# EAGLE library part PDC-10-1 (library divers)
PDC-10-1: Directional coupler 11.5dB (Mini-Circuits)
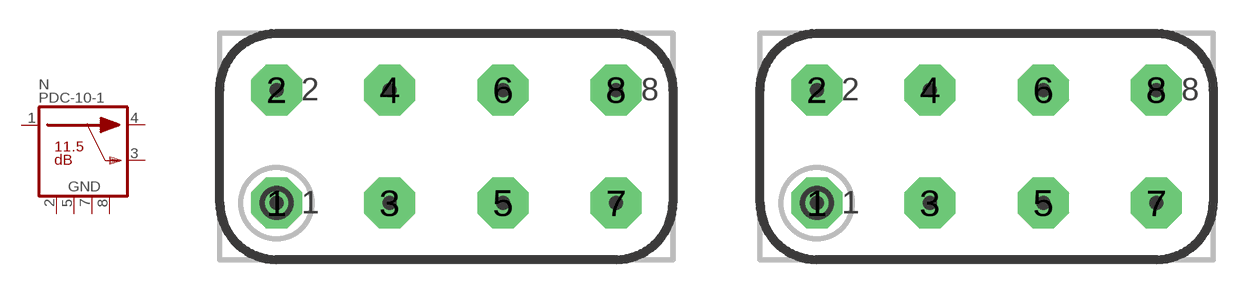
[diagram p24: symbol with the pads of MC-A01N; footprints MC-A01N, MC-A01G]

Designator prefix N

## PDC-10-1  [MC-A01N]
1  IN  in
2  GND  pwr
3  FOR  out
4  OUT  out
5  GND  pwr
7  GND  pwr
8  GND  pwr

## PDC-10-1G  [MC-A01G]
Pads as for MC-A01N

## Footprint MC-A01N (pad centres in mm)
Mini-Circuits A01 Metal case (20*10mm), 8 pins, Broken top plane
drill 0.991 pad 2.286 octagon: 1 -7.62,-2.54; 2 -7.62,2.54; 3 -2.54,-2.54; 4 -2.54,2.54; 5 2.54,-2.54; 6 2.54,2.54; 7 7.62,-2.54; 8 7.62,2.54

## Footprint MC-A01G (pad centres in mm)
Mini-Circuits A01 Metal case (20*10mm), 8 pins
drill 0.991 pad 2.286 octagon: 1 -7.62,-2.54; 2 -7.62,2.54; 3 -2.54,-2.54; 4 -2.54,2.54; 5 2.54,-2.54; 6 2.54,2.54; 7 7.62,-2.54; 8 7.62,2.54